# Altium footprint library PcbLib1.PcbLib: 329 footprints (part 4 of 21)
Each footprint in its own frame and in the unit in brackets; x right, y up, seen from the top. Pads: shape width x height; smd on the part's side, far side on the other; paste and mask are expansions set on the pad; w line width, h text height; cw(c..) or ccw(c..) is an arc to the next point about the centre after c.
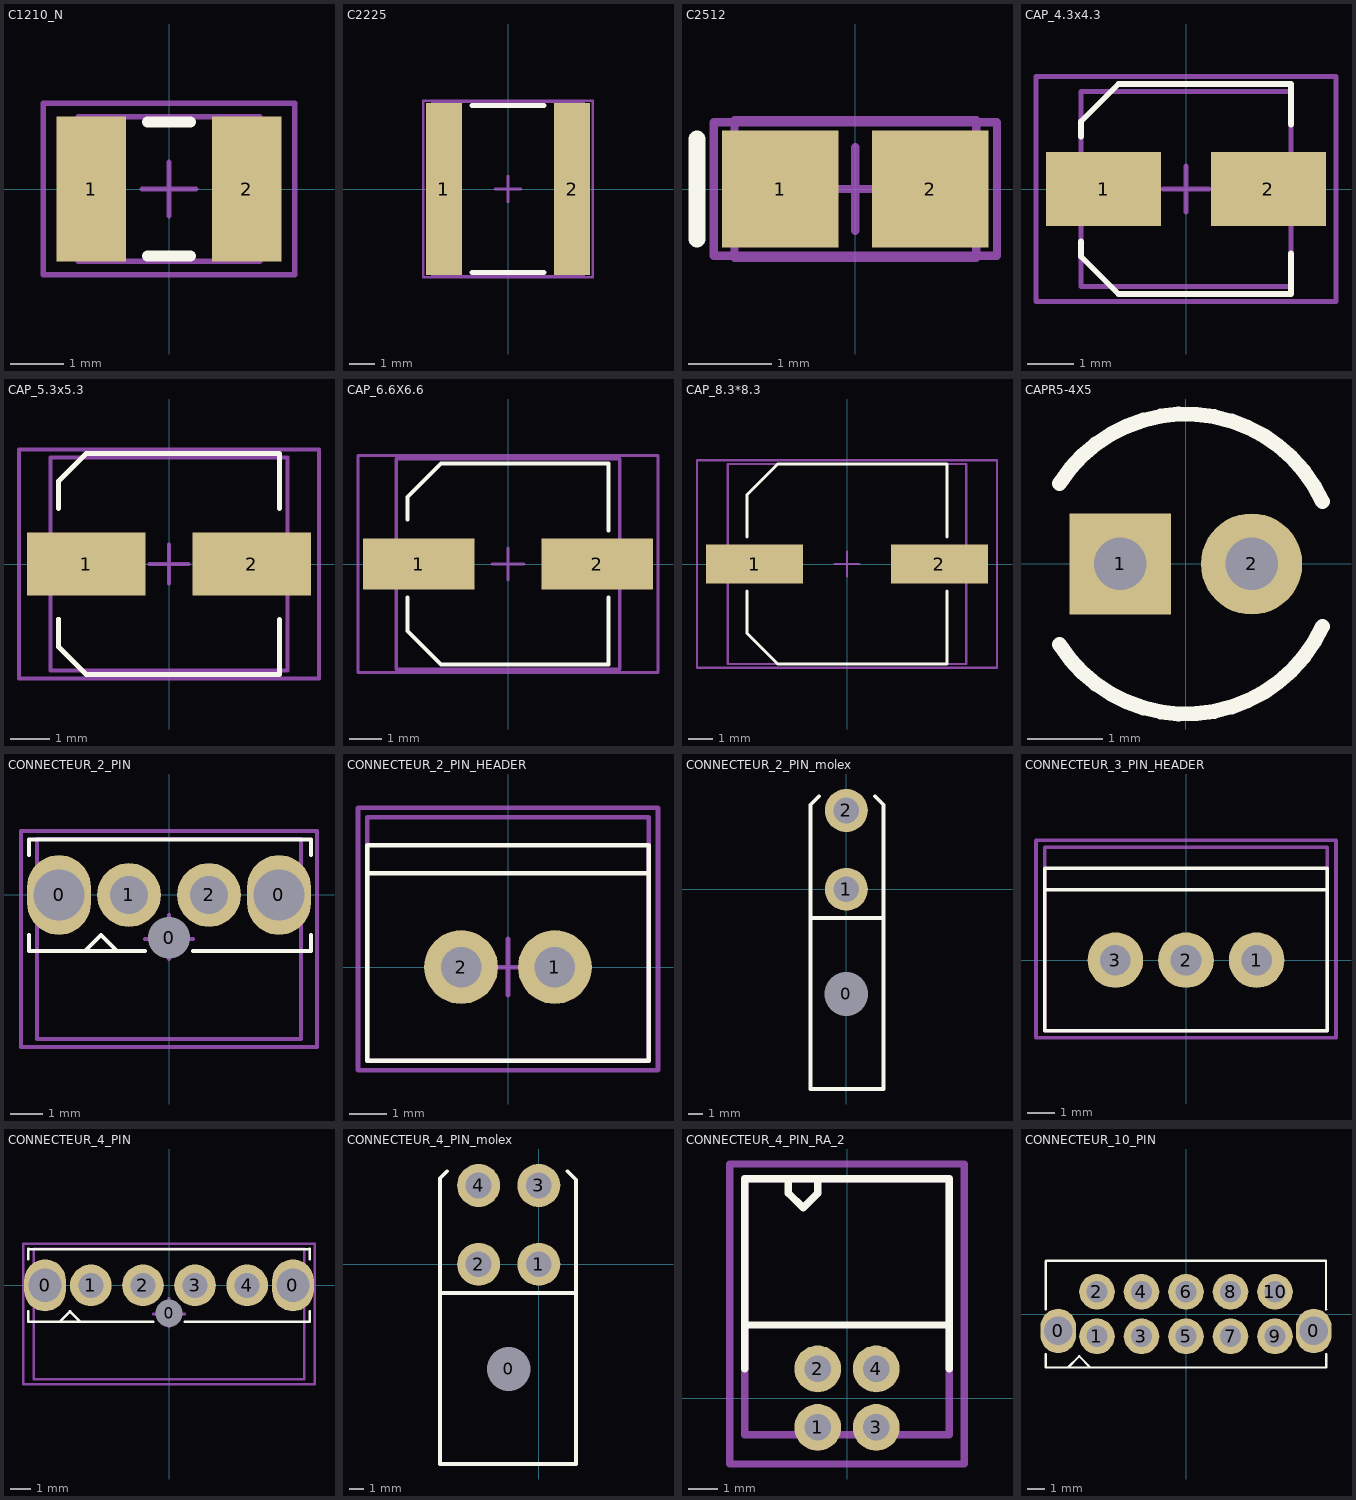
[diagram p3: the footprints below, top view; thin cyan lines are the x and y axes]

## C1210_N [mm] "Chip Capacitor, Body 3.2x2.5mm, IPC Medium Density"
height 1.5
pads (2):
  rect 1.3x2.7 smd: 1(-1.45,0) 2(1.45,0)
Top Overlay:
  lines w0.2: -0.4,-1.25 0.4,-1.25 ; -0.4,1.25 0.4,1.25
Mechanical 13:
  lines w0.1: -1.7,-1.35 1.7,-1.35 1.7,1.35 -1.7,1.35 -1.7,-1.35
Mechanical 15:
  lines w0.1: -0.5,0 0.5,0 ; 0,-0.5 0,0.5 ; -2.35,-1.6 2.35,-1.6 2.35,1.6 -2.35,1.6 -2.35,-1.6
3D body: height 1.5, standoff 0, extent -1.7,-1.35 1.7,1.35

## C2225 [mm] "Chip Capacitor, Body 5.7x6.4mm, IPC High Density"
height 1.4
pads (2):
  rect 1.4x6.7 smd: 1(-2.5,0) 2(2.5,0)
Top Overlay:
  lines w0.2: -1.4,-3.25 1.4,-3.25 ; -1.4,3.25 1.4,3.25
Mechanical 13:
  lines w0.1: -2.95,-3.4 -2.95,3.4 2.95,3.4 2.95,-3.4 -2.95,-3.4
Mechanical 15:
  lines w0.1: -0.5,0 0.5,0 ; 0,-0.5 0,0.5 ; -3.3,-3.45 -3.3,3.45 3.3,3.45 3.3,-3.45 -3.3,-3.45
3D body: height 1.4, standoff 0, extent -2.95,-3.4 2.95,3.4

## C2512 [mm] "Chip Capacitor, Body 2.54x1.27mm, IPC High Density"
height 1.3
pads (2):
  rect 1.4x1.4 smd: 1(-0.9,0) 2(0.9,0)
Top Overlay:
  lines w0.2: -1.9,-0.6 -1.9,0.6
Mechanical 13:
  lines w0.1: -1.45,-0.825 1.45,-0.825 1.45,0.825 -1.45,0.825 -1.45,-0.825
Mechanical 15:
  lines w0.1: -0.5,0 0.5,0 ; 0,-0.5 0,0.5 ; -1.7,-0.8 1.7,-0.8 1.7,0.8 -1.7,0.8 -1.7,-0.8
3D body: height 1.3, standoff 0, extent -1.45,-0.825 1.45,0.825

## CAP_4.3x4.3 [mm] "Electrolytic capacitor 4.3mmx4.3mm"
height 5.5
pads (2):
  rect 2.5x1.6 smd: 1(-1.787,0) 2(1.787,0)
Top Overlay:
  lines w0.127: -2.275,-1.138 -2.275,-1.463 -1.463,-2.275 2.275,-2.275 2.275,-1.4 ; -2.275,1.138 -2.275,1.462 -1.463,2.275 2.275,2.275 2.275,1.4
Mechanical 13:
  lines w0.1: -2.275,-2.113 -2.275,2.113 2.275,2.113 2.275,-2.113 -2.275,-2.113
Mechanical 15:
  lines w0.1: -0.5,0 0.5,0 ; 0,-0.5 0,0.5 ; -3.25,-2.438 -3.25,2.438 3.25,2.438 3.25,-2.438 -3.25,-2.438
3D body "User Library-capacitor size B.step": height 5.31, standoff -0.11, extent -2.3,-2.15 2.3,2.15

## CAP_5.3x5.3 [mm] "Electrolytic capacitor 5.3mmx5.3mm"
height 5.5
pads (2):
  rect 3x1.6 smd: 1(-2.1,0) 2(2.1,0)
Top Overlay:
  lines w0.127: -2.8,1.4 -2.8,2.1 -2.1,2.8 2.8,2.8 2.8,1.4 ; 2.8,-1.4 2.8,-2.8 -2.1,-2.8 -2.8,-2.1 -2.8,-1.4 ; -2.8,-1.4 ccw(c-2.8,-1.4) -2.8,-1.4 ; -2.8,-1.4 -2.8,-1.4
Mechanical 13:
  lines w0.1: -3,-2.7 3,-2.7 3,2.7 -3,2.7 -3,-2.7
Mechanical 15:
  lines w0.1: -0.5,0 0.5,0 ; 0,-0.5 0,0.5 ; -3.8,-2.9 3.8,-2.9 3.8,2.9 -3.8,2.9 -3.8,-2.9
3D body "User Library-ALU-C.STEP": height 5.31, standoff -0.1, extent -2.95,-2.65 2.95,2.65

## CAP_6.6X6.6 [mm] "Electrolytic capacitor 6.6mmx6.6mm"
height 7.7
pads (2):
  rect 3.5x1.6 smd: 1(-2.8,0) 2(2.8,0)
Top Overlay:
  lines w0.127: -3.15,-1.05 -3.15,-2.1 -2.1,-3.15 3.15,-3.15 3.15,-1.05 ; -3.15,1.4 -3.15,2.1 -2.1,3.15 3.15,3.15 3.15,1.05
Mechanical 13:
  lines w0.1: -3.5,-3.3 3.5,-3.3 3.5,3.3 -3.5,3.3 -3.5,-3.3
Mechanical 15:
  lines w0.1: -0.5,0 0.5,0 ; 0,-0.5 0,0.5 ; -4.7,-3.4 -4.7,3.4 4.7,3.4 4.7,-3.4 -4.7,-3.4
3D body "User Library-ALU-D8.STEP": height 7.6, standoff -0.1, extent -3.5,-3.3 3.5,3.3

## CAP_8.3*8.3 [mm] "Electrolytic capacitor 6.6mmx6.6mm"
height 7.7
pads (2):
  rect 4x1.6 smd: 1(-3.81,0) 2(3.81,0)
Top Overlay:
  lines w0.127: -4.127,-1.111 -4.127,-2.857 -2.857,-4.127 4.127,-4.127 4.127,-1.111 ; -4.127,1.111 -4.127,2.857 -2.857,4.127 4.127,4.127 4.127,1.111
Mechanical 1:
  lines w0.1: -4.921,-4.127 -4.921,4.127 4.921,4.127 4.921,-4.127 -4.921,-4.127
Mechanical 15:
  lines w0.1: -0.5,0 0.5,0 ; 0,-0.5 0,0.5 ; -6.191,-4.286 6.191,-4.286 6.191,4.286 -6.191,4.286 -6.191,-4.286
3D body "User Library-ALU-F.STEP": height 10.2, standoff 0, extent -4.979,-4.128 4.921,4.172
3D body "User Library-ALU-F.STEP": height 10.1, standoff -0.1, extent -4.95,-4.15 4.95,4.15

## CAPR5-4X5 [mm] "Capacitor; 2 Leads"
height 12
pads (2):
  rect 1.35x1.35 hole 0.7: 1(-0.875,0)
  round 1.35 hole 0.7: 2(0.875,0)
Top Overlay:
  lines w0.2: -1.687,-1.075 ccw(c0,0) 1.819,-0.832 ; -1.687,1.075 cw(c0,0) 1.819,0.832
3D body "User Library-CAPPR150-400x470_10uF_10V.STEP": height 4.71, standoff -3.1, extent -2,-2 2,2

## CONNECTEUR_2_PIN [mm] "MOLEX NANO FIT"
pads (5):
  oval 2x2.5 hole 1.6: 0(-3.437,0) 0(3.437,0)
  round 1 hole 1.3: 0(0,-1.34)
  round 2 hole 1.2: 1(-1.25,0) 2(1.25,0)
Top Overlay:
  lines w0.127: -4.375,-1.25 -4.375,-1.75 -0.75,-1.75 ; -4.375,1.25 -4.375,1.74 4.437,1.74 4.437,1.25 ; -2.625,-1.75 -2.125,-1.25 -1.625,-1.75 ; 0.75,-1.75 4.437,-1.75 4.437,-1.25 ; -4.25,-1.75 ccw(c-4.25,-1.75) -4.25,-1.75
Mechanical 13:
  lines w0.127: -4.125,-4.5 -4.125,1.75 4.125,1.75 4.125,-4.5 -4.125,-4.5
Mechanical 15:
  lines w0.127: -0.75,-1.375 0.75,-1.375 ; 0,-2 0,-0.625 ; -4.625,-4.75 -4.625,2 4.625,2 4.625,-4.75 -4.625,-4.75
3D body "1053111102.stp": height 10.48, standoff -3.23, extent -4.11,-4.6 4.11,1.74

## CONNECTEUR_2_PIN_HEADER [mm] "CONN HEADER 2POS .100 VERT GOLD"
pads (2):
  round 2 hole 1.1: 1(1.27,0) 2(-1.27,0)
Top Overlay:
  lines w0.127: -3.81,2.54 -3.81,-2.54 3.81,-2.54 3.81,2.54 ; -3.81,2.54 3.81,2.54 ; -3.81,2.54 -3.81,3.302 3.81,3.302 3.81,2.54
Mechanical 13:
  lines w0.127: -3.81,-2.54 -3.81,4.064 3.81,4.064 3.81,-2.54 -3.81,-2.54
Mechanical 15:
  lines w0.127: -0.762,0 0.762,0 ; 0,-0.762 0,0.762 ; -4.064,-2.794 -4.064,4.318 4.064,4.318 4.064,-2.794 -4.064,-2.794
3D body "705430001.stp": height 11.81, standoff -3.3, extent -3.683,-2.54 3.683,4.064
3D body "705430001.stp": height 11.81, standoff -3.3, extent -3.683,-2.54 3.683,4.064

## CONNECTEUR_2_PIN_molex [mm] "CONN HEADER R/A 2POS 4.2MM"
pads (3):
  round 1.524 hole 3.05: 0(0,-7.3)
  round 3 hole 1.8: 1(0,0) 2(0,5.5)
Top Overlay:
  lines w0.254: -2.5,-2 2.6,-2 ; -1.9,6.5 -2.5,5.9 -2.5,3.3 -2.5,-13.935 2.6,-13.935 2.6,5.9 2,6.5
3D body "1724480002.stp": height 11.4, standoff -3.6, extent -2.7,-13.867 3.1,6.067

## CONNECTEUR_3_PIN_HEADER [mm] "CONN HEADER 3POS .100 VERT GOLD"
pads (3):
  round 2 hole 1.1: 1(2.54,0) 2(0,0) 3(-2.54,0)
Top Overlay:
  lines w0.127: -5.08,2.54 5.08,2.54 ; -5.08,-2.54 5.08,-2.54 5.08,1.27 5.08,3.302 -5.08,3.302 -5.08,1.27 -5.08,-2.54
Mechanical 13:
  lines w0.127: -5.08,-2.54 5.08,-2.54 5.08,4.064 -5.08,4.064 -5.08,-2.54
Mechanical 15:
  lines w0.127: -0.762,0 0.762,0 ; 0,-0.762 0,0.762 ; -5.397,-2.794 5.397,-2.794 5.397,4.318 -5.397,4.318 -5.397,-2.794
3D body "705430001.stp": height 11.81, standoff -3.3, extent -3.683,-2.54 3.683,4.064
3D body "705430002.stp": height 11.81, standoff -3.3, extent -5.08,-2.54 5.08,4.064

## CONNECTEUR_4_PIN [mm] "MOLEX NANO FIT"
pads (7):
  oval 2x2.5 hole 1.6: 0(-5.95,0) 0(5.95,0)
  round 1 hole 1.3: 0(0,-1.34)
  round 2 hole 1.2: 1(-3.75,0) 2(-1.25,0) 3(1.25,0) 4(3.75,0)
Top Overlay:
  lines w0.127: -6.75,-1.25 -6.75,-1.75 -0.75,-1.75 ; -6.75,1.25 -6.75,1.75 ccw(c-6.726,1.774) -6.726,1.74 -6.61,1.74 6.61,1.74 6.726,1.74 ccw(c6.726,1.774) 6.75,1.75 6.75,1.25 ; -5.25,-1.75 -4.75,-1.25 ; 0.75,-1.75 6.75,-1.75 6.75,-1.25 ; -4.75,-1.25 ccw(c-4.75,-1.25) -4.75,-1.25 ; -4.75,-1.25 -4.25,-1.75 ; -4.25,-1.75 ccw(c-4.25,-1.75) -4.25,-1.75
Mechanical 13:
  lines w0.127: -6.5,1.74 -6.5,-4.5 6.5,-4.5 6.5,1.75 -6.49,1.75
Mechanical 15:
  lines w0.127: -0.75,-1.375 0.75,-1.375 ; 0,-2 0,-0.625 ; -7,-4.75 7,-4.75 7,2 -7,2 -7,-4.75
3D body "1053111104.stp": height 10.48, standoff -3.23, extent -6.61,-4.6 6.61,1.74

## CONNECTEUR_4_PIN_molex [mm] "CONN HEADER R/A 4POS 4.2MM"
pads (5):
  round 1.524 hole 3.05: 0(-2.1,-7.3)
  round 3 hole 1.8: 1(0,0) 2(-4.2,0) 3(0,5.5) 4(-4.2,5.5)
Top Overlay:
  lines w0.254: -6.8,-2 2.6,-2 ; -6.4,6.5 -6.9,6 -6.9,-13.935 2.6,-13.935 2.6,5.9 2,6.5
3D body "1724480004.stp": height 11.4, standoff -3.6, extent -6.9,-13.935 3.1,6

## CONNECTEUR_4_PIN_RA_2 [mm] "MOLEX milli-grid"
pads (4):
  round 1.6 hole 0.9: 1(-1,-1) 2(-1,1) 3(1,-1) 4(1,1)
Top Overlay:
  lines w0.254: -3.5,1 -3.5,7.5 3.5,7.5 3.5,1 ; -3.5,2.5 3.5,2.5 ; -2,7.5 -2,7 -1.5,6.5 -1,7 -1,7.5
Mechanical 13:
  lines w0.254: -3.5,-1.25 -3.5,7.5 3.5,7.5 3.5,-1.25 -3.5,-1.25
Mechanical 15:
  lines w0.254: -4,-2.25 4,-2.25 4,8 -4,8 -4,-2.25
3D body "878330419.stp": height 6.3, standoff -2.16, extent -3.325,-1.2 3.325,7.45

## CONNECTEUR_10_PIN [mm] "MOLEX NANO FIT"
pads (12):
  oval 2x2.5 hole 1.6: 0(-7.175,-0.95) 0(7.175,-0.95)
  round 2 hole 1.2: 1(-5,-1.25) 2(-5,1.25) 3(-2.5,-1.25) 4(-2.5,1.25) 5(0,-1.25) 6(0,1.25) 7(2.5,-1.25) 8(2.5,1.25) 9(5,-1.25) 10(5,1.25)
Top Overlay:
  lines w0.127: -7.875,-2.25 -7.875,-3 7.875,-3 7.875,-2.25 ; -7.875,0.25 -7.875,2.954 cw(c-7.824,2.954) -7.86,2.99 7.86,2.99 7.86,0.286 ccw(c7.911,0.286) 7.875,0.25 ; -6.625,-3 -6,-2.375 -5.375,-3
3D body "1053121210.stp": height 10.49, standoff -3.23, extent -7.86,-5.85 7.86,2.99